# EAGLE library part MCP4661-104E-MS (library df4iah_dig-pot)
Microchip MCP4661 8-Bit Dual I2C Digital POT with Nonvolatile Memory
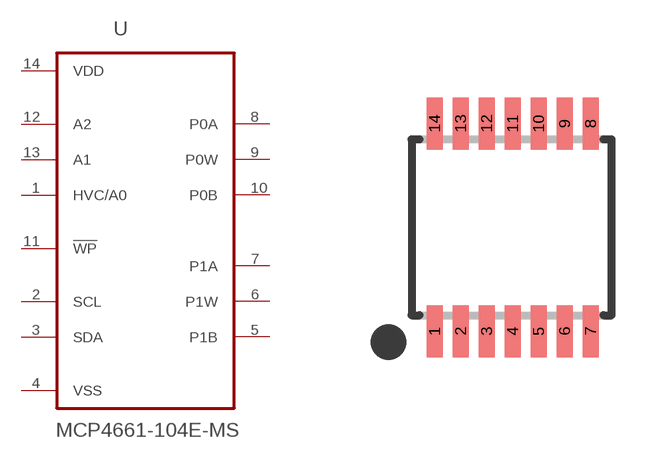
[diagram p2: symbol with the pads of TSSOP14; footprint TSSOP14]

Designator prefix U

## MCP4661-104E-MS  [TSSOP14]
1  HVC/A0  in
2  SCL  in
3  SDA
4  VSS  pas
5  P1B  pas
6  P1W  pas
7  P1A  pas
8  P0A  pas
9  P0W  pas
10  P0B  pas
11  !WP  in
12  A2  in
13  A1  in
14  VDD  pwr

## Footprint TSSOP14 (pad centres in mm)
Thin Shrink Small Outline Package TSSOP-20
smd 0.4 x 1.3: 1 -1.925,-2.6; 2 -1.275,-2.6; 3 -0.625,-2.6; 4 0.025,-2.6; 5 0.675,-2.6; 6 1.325,-2.6; 7 1.975,-2.6; 8 1.975,2.6; 9 1.325,2.6; 10 0.675,2.6; 11 0.025,2.6; 12 -0.625,2.6; 13 -1.275,2.6; 14 -1.925,2.6